# Altium integrated library Xilinx XC4000 E.IntLib: 265 symbols (part 22 of 22)
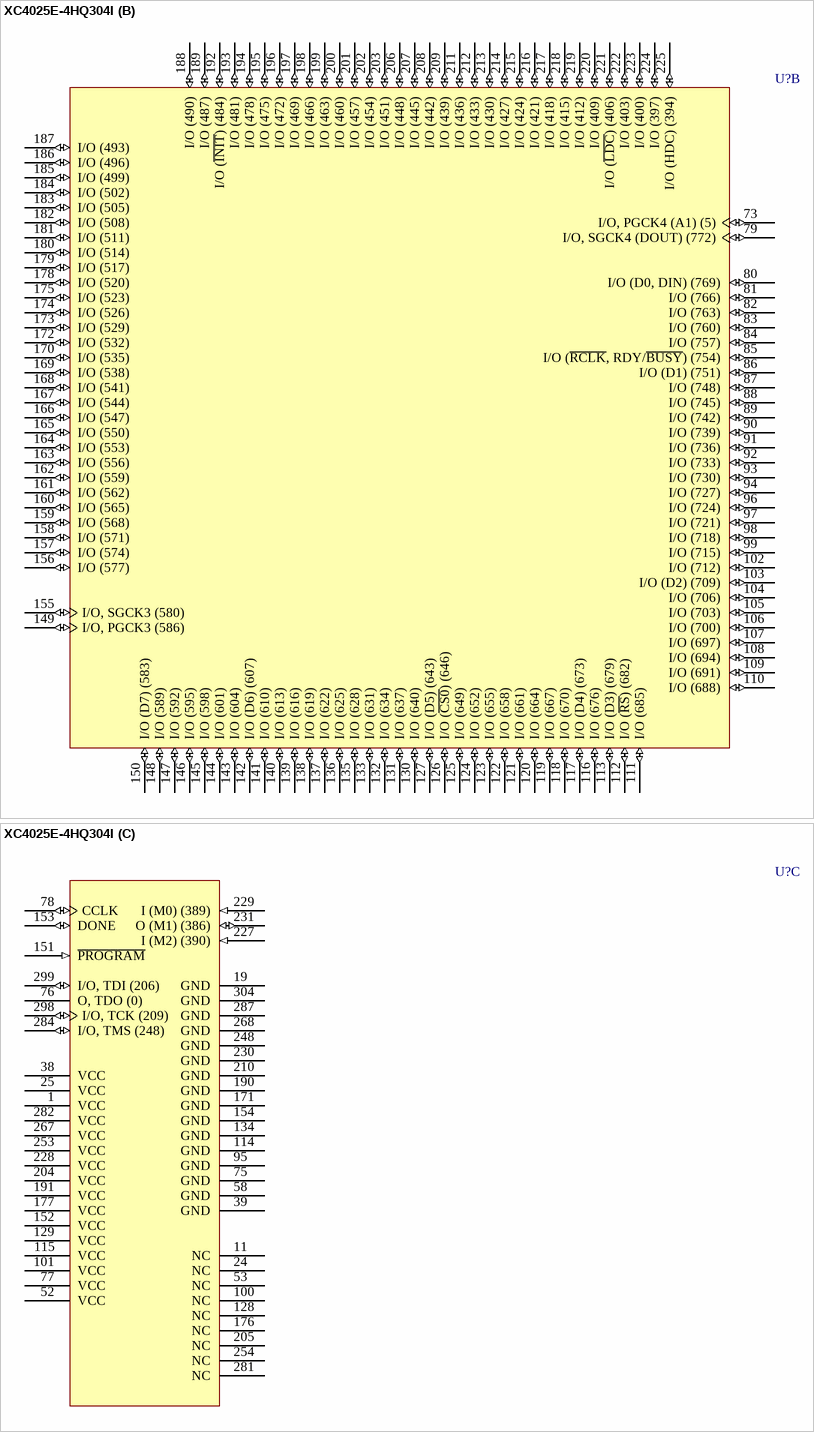
[diagram p293: symbol XC4025E-4HQ304I]

## XC4025E-4HQ304I
designator U?
XC4000E FPGA, 304-Pin HQFP, Industrial Grade; PackageDocument: ver1.1, Oct-2002; Published: 28-Feb-2003; DatasheetDocument: (v1.6) May-99; PackageReference: HQ304; Publisher: Altium Limited; Code_JEDEC: MO-143-JA
footprint HQ304 (304-Pin Heat Sink Quad Flat Pack (HQ304))
part A pins: 2 I/O, SGCK1 (A15) (191) (io), 3 I/O (A14) (188) (io), 4 I/O (185) (io), 5 I/O (182) (io), 6 I/O (179) (io), 7 I/O (176) (io), 8 I/O (173) (io), 9 I/O (170) (io), 10 I/O (A13) (167) (io), 12 I/O (A12) (164) (io), 13 I/O (161) (io), 14 I/O (158) (io), 15 I/O (155) (io), 16 I/O (152) (io), 17 I/O (149) (io), 18 I/O (146) (io), 20 I/O (143) (io), 21 I/O (140) (io), 22 I/O (137) (io), 23 I/O (134) (io), 26 I/O (131) (io), 27 I/O (128) (io), 28 I/O (125) (io), 29 I/O (122) (io), 30 I/O (A11) (119) (io), 31 I/O (A10) (116) (io), 32 I/O (113) (io), 33 I/O (110) (io), 34 I/O (107) (io), 35 I/O (104) (io), 36 I/O (A9) (101) (io), 37 I/O (A8) (98) (io), 40 I/O (A7) (95) (io), 41 I/O (A6) (92) (io), 42 I/O (89) (io), 43 I/O (86) (io), 44 I/O (83) (io), 45 I/O (80) (io), 46 I/O (A5) (77) (io), 47 I/O (A4) (74) (io), 48 I/O (71) (io), 49 I/O (68) (io), 50 I/O (65) (io), 51 I/O (62) (io), 54 I/O (59) (io), 55 I/O (56) (io), 56 I/O (53) (io), 57 I/O (50) (io), 59 I/O (47) (io), 60 I/O (44) (io), 61 I/O (41) (io), 62 I/O (38) (io), 63 I/O (35) (io), 64 I/O (32) (io), 65 I/O (29) (io), 66 I/O (26) (io), 67 I/O (23) (io), 68 I/O (20) (io), 69 I/O (A3) (17) (io), 70 I/O (CS1, A2) (14) (io), 71 I/O (11) (io), 72 I/O (8) (io), 74 I/O (A0, ~{WS}) (2) (io), 226 I/O, PGCK2 (391) (io), 232 I/O, SGCK2 (383) (io), 233 I/O (380) (io), 234 I/O (377) (io), 235 I/O (374) (io), 236 I/O (371) (io), 237 I/O (368) (io), 238 I/O (365) (io), 239 I/O (362) (io), 240 I/O (359) (io), 241 I/O (356) (io), 242 I/O (353) (io), 243 I/O (350) (io), 244 I/O (347) (io), 245 I/O (344) (io), 246 I/O (341) (io), 247 I/O (338) (io), 249 I/O (335) (io), 250 I/O (332) (io), 251 I/O (329) (io), 252 I/O (326) (io), 255 I/O (323) (io), 256 I/O (320) (io), 257 I/O (317) (io), 258 I/O (314) (io), 259 I/O (311) (io), 260 I/O (308) (io), 261 I/O (305) (io), 262 I/O (302) (io), 263 I/O (299) (io), 264 I/O (296) (io), 265 I/O (293) (io), 266 I/O (290) (io), 269 I/O (287) (io), 270 I/O (284) (io), 271 I/O (281) (io), 272 I/O (278) (io), 273 I/O (275) (io), 274 I/O (272) (io), 275 I/O (269) (io), 276 I/O (266) (io), 277 I/O (263) (io), 278 I/O (260) (io), 279 I/O (257) (io), 280 I/O (254) (io), 283 I/O (251) (io), 285 I/O (245) (io), 286 I/O (242) (io), 288 I/O (239) (io), 289 I/O (236) (io), 290 I/O (233) (io), 291 I/O (230) (io), 292 I/O (227) (io), 293 I/O (224) (io), 294 I/O (221) (io), 295 I/O (218) (io), 296 I/O (215) (io), 297 I/O (212) (io), 300 I/O (203) (io), 301 I/O (200) (io), 302 I/O (A17) (197) (io), 303 I/O, PGCK1 (A16) (194) (io)
part B pins: 73 I/O, PGCK4 (A1) (5) (io), 79 I/O, SGCK4 (DOUT) (772) (io), 80 I/O (D0, DIN) (769) (io), 81 I/O (766) (io), 82 I/O (763) (io), 83 I/O (760) (io), 84 I/O (757) (io), 85 I/O (~{RCLK}, RDY/~{BUSY}) (754) (io), 86 I/O (D1) (751) (io), 87 I/O (748) (io), 88 I/O (745) (io), 89 I/O (742) (io), 90 I/O (739) (io), 91 I/O (736) (io), 92 I/O (733) (io), 93 I/O (730) (io), 94 I/O (727) (io), 96 I/O (724) (io), 97 I/O (721) (io), 98 I/O (718) (io), 99 I/O (715) (io), 102 I/O (712) (io), 103 I/O (D2) (709) (io), 104 I/O (706) (io), 105 I/O (703) (io), 106 I/O (700) (io), 107 I/O (697) (io), 108 I/O (694) (io), 109 I/O (691) (io), 110 I/O (688) (io), 111 I/O (685) (io), 112 I/O (~{RS}) (682) (io), 113 I/O (D3) (679) (io), 116 I/O (676) (io), 117 I/O (D4) (673) (io), 118 I/O (670) (io), 119 I/O (667) (io), 120 I/O (664) (io), 121 I/O (661) (io), 122 I/O (658) (io), 123 I/O (655) (io), 124 I/O (652) (io), 125 I/O (649) (io), 126 I/O (~{CS0}) (646) (io), 127 I/O (D5) (643) (io), 130 I/O (640) (io), 131 I/O (637) (io), 132 I/O (634) (io), 133 I/O (631) (io), 135 I/O (628) (io), 136 I/O (625) (io), 137 I/O (622) (io), 138 I/O (619) (io), 139 I/O (616) (io), 140 I/O (613) (io), 141 I/O (610) (io), 142 I/O (D6) (607) (io), 143 I/O (604) (io), 144 I/O (601) (io), 145 I/O (598) (io), 146 I/O (595) (io), 147 I/O (592) (io), 148 I/O (589) (io), 149 I/O, PGCK3 (586) (io), 150 I/O (D7) (583) (io), 155 I/O, SGCK3 (580) (io), 156 I/O (577) (io), 157 I/O (574) (io), 158 I/O (571) (io), 159 I/O (568) (io), 160 I/O (565) (io), 161 I/O (562) (io), 162 I/O (559) (io), 163 I/O (556) (io), 164 I/O (553) (io), 165 I/O (550) (io), 166 I/O (547) (io), 167 I/O (544) (io), 168 I/O (541) (io), 169 I/O (538) (io), 170 I/O (535) (io), 172 I/O (532) (io), 173 I/O (529) (io), 174 I/O (526) (io), 175 I/O (523) (io), 178 I/O (520) (io), 179 I/O (517) (io), 180 I/O (514) (io), 181 I/O (511) (io), 182 I/O (508) (io), 183 I/O (505) (io), 184 I/O (502) (io), 185 I/O (499) (io), 186 I/O (496) (io), 187 I/O (493) (io), 188 I/O (490) (io), 189 I/O (487) (io), 192 I/O (~{INIT}) (484) (io), 193 I/O (481) (io), 194 I/O (478) (io), 195 I/O (475) (io), 196 I/O (472) (io), 197 I/O (469) (io), 198 I/O (466) (io), 199 I/O (463) (io), 200 I/O (460) (io), 201 I/O (457) (io), 202 I/O (454) (io), 203 I/O (451) (io), 206 I/O (448) (io), 207 I/O (445) (io), 208 I/O (442) (io), 209 I/O (439) (io), 211 I/O (436) (io), 212 I/O (433) (io), 213 I/O (430) (io), 214 I/O (427) (io), 215 I/O (424) (io), 216 I/O (421) (io), 217 I/O (418) (io), 218 I/O (415) (io), 219 I/O (412) (io), 220 I/O (409) (io), 221 I/O (~{LDC}) (406) (io), 222 I/O (403) (io), 223 I/O (400) (io), 224 I/O (397) (io), 225 I/O (HDC) (394) (io)
part C pins: 1 VCC (power), 11 NC, 19 GND (power), 24 NC, 25 VCC (power), 38 VCC (power), 39 GND (power), 52 VCC (power), 53 NC, 58 GND (power), 75 GND (power), 76 O, TDO (0) (hiz), 77 VCC (power), 78 CCLK (io), 95 GND (power), 100 NC, 101 VCC (power), 114 GND (power), 115 VCC (power), 128 NC, 129 VCC (power), 134 GND (power), 151 ~{PROGRAM} (in), 152 VCC (power), 153 DONE (io), 154 GND (power), 171 GND (power), 176 NC, 177 VCC (power), 190 GND (power), 191 VCC (power), 204 VCC (power), 205 NC, 210 GND (power), 227 I (M2) (390) (in), 228 VCC (power), 229 I (M0) (389) (in), 230 GND (power), 231 O (M1) (386) (io), 248 GND (power), 253 VCC (power), 254 NC, 267 VCC (power), 268 GND (power), 281 NC, 282 VCC (power), 284 I/O, TMS (248) (io), 287 GND (power), 298 I/O, TCK (209) (io), 299 I/O, TDI (206) (io), 304 GND (power)

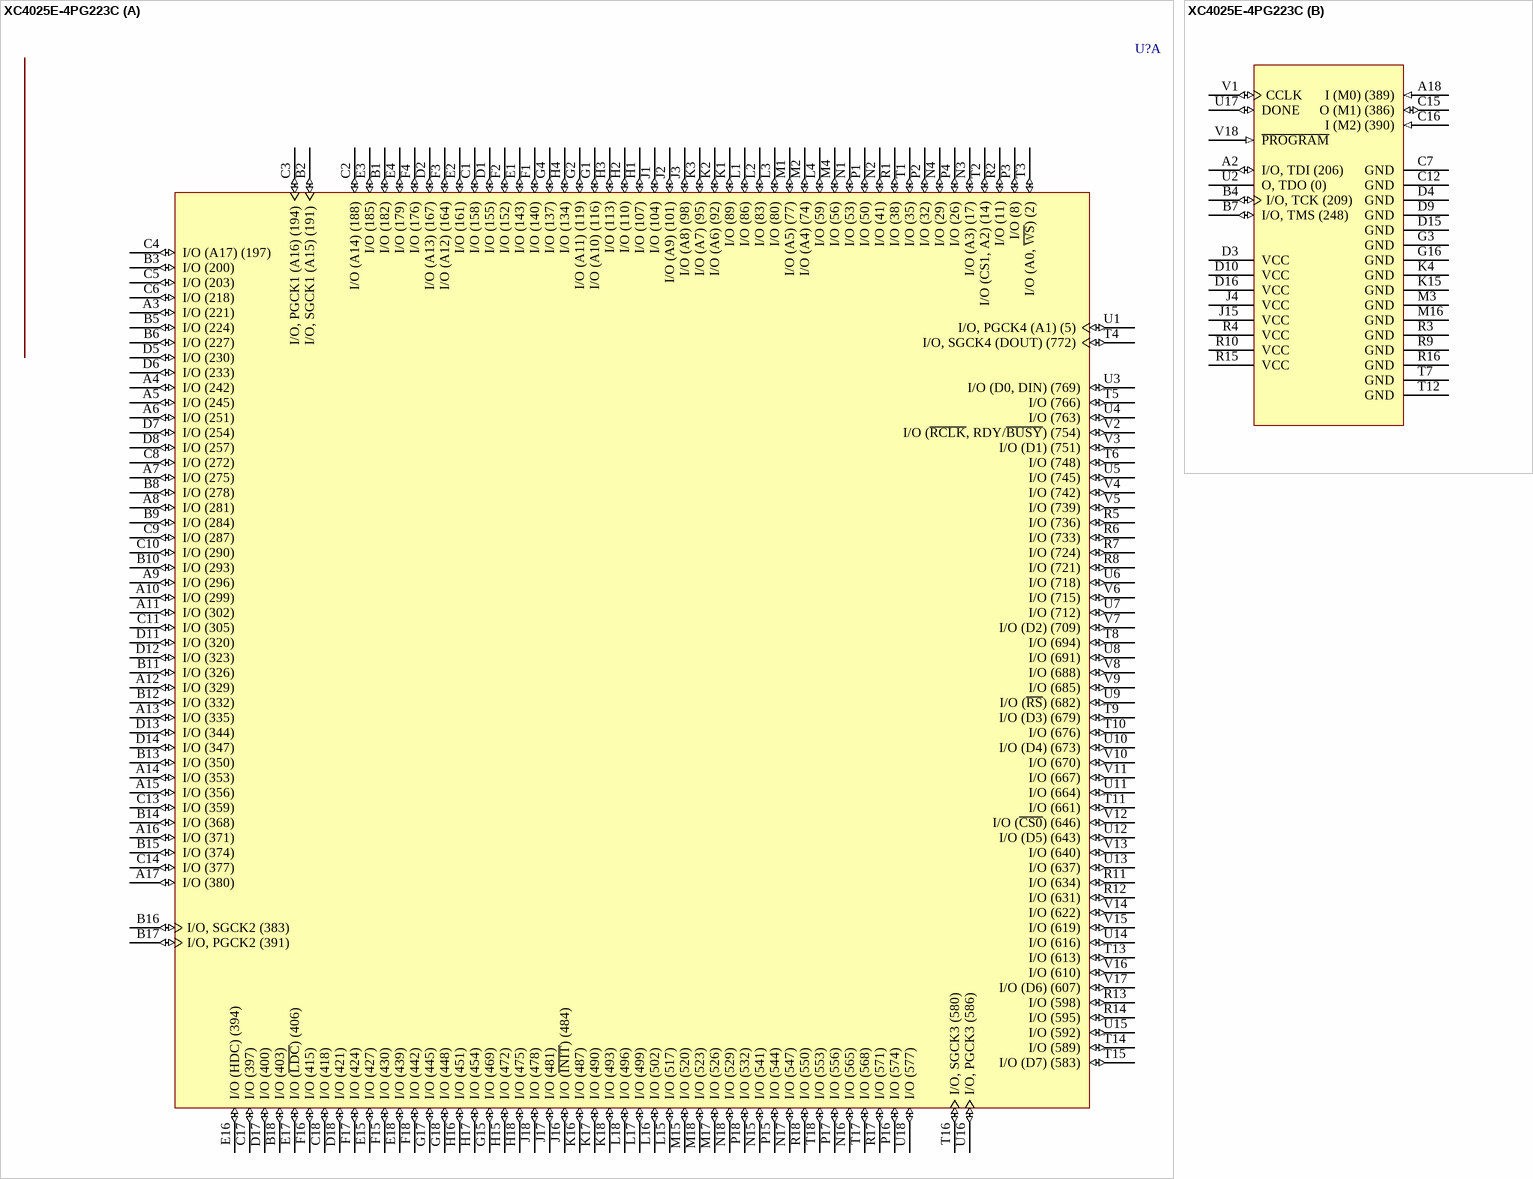
[diagram p267: symbol XC4025E-4PG223C]

## XC4025E-4PG223C
designator U?
XC4000E FPGA, 223-Pin PGA, Commercial Grade; PackageDocument: ver1.0, Jun-2000; Published: 28-Feb-2003; DatasheetDocument: (v1.6) May-99; PackageReference: PG223; Publisher: Altium Limited
footprint PG223 (223-Pin Ceramic Pin Grid Array (PG223))
part A pins: A3 I/O (221) (io), A4 I/O (242) (io), A5 I/O (245) (io), A6 I/O (251) (io), A7 I/O (275) (io), A8 I/O (281) (io), A9 I/O (296) (io), A10 I/O (299) (io), A11 I/O (302) (io), A12 I/O (329) (io), A13 I/O (335) (io), A14 I/O (353) (io), A15 I/O (356) (io), A16 I/O (371) (io), A17 I/O (380) (io), B1 I/O (182) (io), B2 I/O, SGCK1 (A15) (191) (io), B3 I/O (200) (io), B5 I/O (224) (io), B6 I/O (227) (io), B8 I/O (278) (io), B9 I/O (284) (io), B10 I/O (293) (io), B11 I/O (326) (io), B12 I/O (332) (io), B13 I/O (350) (io), B14 I/O (368) (io), B15 I/O (374) (io), B16 I/O, SGCK2 (383) (io), B17 I/O, PGCK2 (391) (io), B18 I/O (403) (io), C1 I/O (158) (io), C2 I/O (A14) (188) (io), C3 I/O, PGCK1 (A16) (194) (io), C4 I/O (A17) (197) (io), C5 I/O (203) (io), C6 I/O (218) (io), C8 I/O (272) (io), C9 I/O (287) (io), C10 I/O (290) (io), C11 I/O (305) (io), C13 I/O (359) (io), C14 I/O (377) (io), C17 I/O (397) (io), C18 I/O (418) (io), D1 I/O (155) (io), D2 I/O (A13) (167) (io), D5 I/O (230) (io), D6 I/O (233) (io), D7 I/O (254) (io), D8 I/O (257) (io), D11 I/O (320) (io), D12 I/O (323) (io), D13 I/O (344) (io), D14 I/O (347) (io), D17 I/O (400) (io), D18 I/O (421) (io), E1 I/O (143) (io), E2 I/O (161) (io), E3 I/O (185) (io), E4 I/O (179) (io), E15 I/O (427) (io), E16 I/O (HDC) (394) (io), E17 I/O (~{LDC}) (406) (io), E18 I/O (439) (io), F1 I/O (140) (io), F2 I/O (152) (io), F3 I/O (A12) (164) (io), F4 I/O (176) (io), F15 I/O (430) (io), F16 I/O (415) (io), F17 I/O (424) (io), F18 I/O (442) (io), G1 I/O (A10) (116) (io), G2 I/O (A11) (119) (io), G4 I/O (137) (io), G15 I/O (469) (io), G17 I/O (445) (io), G18 I/O (448) (io), H1 I/O (107) (io), H2 I/O (110) (io), H3 I/O (113) (io), H4 I/O (134) (io), H15 I/O (472) (io), H16 I/O (451) (io), H17 I/O (454) (io), H18 I/O (475) (io), J1 I/O (104) (io), J2 I/O (A9) (101) (io), J3 I/O (A8) (98) (io), J16 I/O (~{INIT}) (484) (io), J17 I/O (481) (io), J18 I/O (478) (io), K1 I/O (89) (io), K2 I/O (A6) (92) (io), K3 I/O (A7) (95) (io), K16 I/O (487) (io), K17 I/O (490) (io), K18 I/O (493) (io), L1 I/O (86) (io), L2 I/O (83) (io), L3 I/O (80) (io), L4 I/O (59) (io), L15 I/O (517) (io), L16 I/O (502) (io), L17 I/O (499) (io), L18 I/O (496) (io), M1 I/O (A5) (77) (io), M2 I/O (A4) (74) (io), M4 I/O (56) (io), M15 I/O (520) (io), M17 I/O (526) (io), M18 I/O (523) (io), N1 I/O (53) (io), N2 I/O (41) (io), N3 I/O (A3) (17) (io), N4 I/O (29) (io), N15 I/O (541) (io), N16 I/O (565) (io), N17 I/O (547) (io), N18 I/O (529) (io), P1 I/O (50) (io), P2 I/O (32) (io), P3 I/O (8) (io), P4 I/O (26) (io), P15 I/O (544) (io), P16 I/O (574) (io), P17 I/O (556) (io), P18 I/O (532) (io), R1 I/O (38) (io), R2 I/O (11) (io), R5 I/O (736) (io), R6 I/O (733) (io), R7 I/O (724) (io), R8 I/O (721) (io), R11 I/O (634) (io), R12 I/O (631) (io), R13 I/O (598) (io), R14 I/O (595) (io), R17 I/O (571) (io), R18 I/O (550) (io), T1 I/O (35) (io), T2 I/O (CS1, A2) (14) (io), T3 I/O (A0, ~{WS}) (2) (io), T4 I/O, SGCK4 (DOUT) (772) (io), T5 I/O (766) (io), T6 I/O (748) (io), T8 I/O (694) (io), T9 I/O (D3) (679) (io), T10 I/O (676) (io), T11 I/O (661) (io), T13 I/O (613) (io), T14 I/O (589) (io), T15 I/O (D7) (583) (io), T16 I/O, SGCK3 (580) (io), T17 I/O (568) (io), T18 I/O (553) (io), U1 I/O, PGCK4 (A1) (5) (io), U3 I/O (D0, DIN) (769) (io), U4 I/O (763) (io), U5 I/O (745) (io), U6 I/O (718) (io), U7 I/O (712) (io), U8 I/O (691) (io), U9 I/O (~{RS}) (682) (io), U10 I/O (D4) (673) (io), U11 I/O (664) (io), U12 I/O (D5) (643) (io), U13 I/O (637) (io), U14 I/O (616) (io), U15 I/O (592) (io), U16 I/O, PGCK3 (586) (io), U18 I/O (577) (io), V2 I/O (~{RCLK}, RDY/~{BUSY}) (754) (io), V3 I/O (D1) (751) (io), V4 I/O (742) (io), V5 I/O (739) (io), V6 I/O (715) (io), V7 I/O (D2) (709) (io), V8 I/O (688) (io), V9 I/O (685) (io), V10 I/O (670) (io), V11 I/O (667) (io), V12 I/O (~{CS0}) (646) (io), V13 I/O (640) (io), V14 I/O (622) (io), V15 I/O (619) (io), V16 I/O (610) (io), V17 I/O (D6) (607) (io)
part B pins: A2 I/O, TDI (206) (io), A18 I (M0) (389) (in), B4 I/O, TCK (209) (io), B7 I/O, TMS (248) (io), C7 GND (power), C12 GND (power), C15 O (M1) (386) (io), C16 I (M2) (390) (in), D3 VCC (power), D4 GND (power), D9 GND (power), D10 VCC (power), D15 GND (power), D16 VCC (power), G3 GND (power), G16 GND (power), J4 VCC (power), J15 VCC (power), K4 GND (power), K15 GND (power), M3 GND (power), M16 GND (power), R3 GND (power), R4 VCC (power), R9 GND (power), R10 VCC (power), R15 VCC (power), R16 GND (power), T7 GND (power), T12 GND (power), U2 O, TDO (0) (hiz), U17 DONE (io), V1 CCLK (io), V18 ~{PROGRAM} (in)

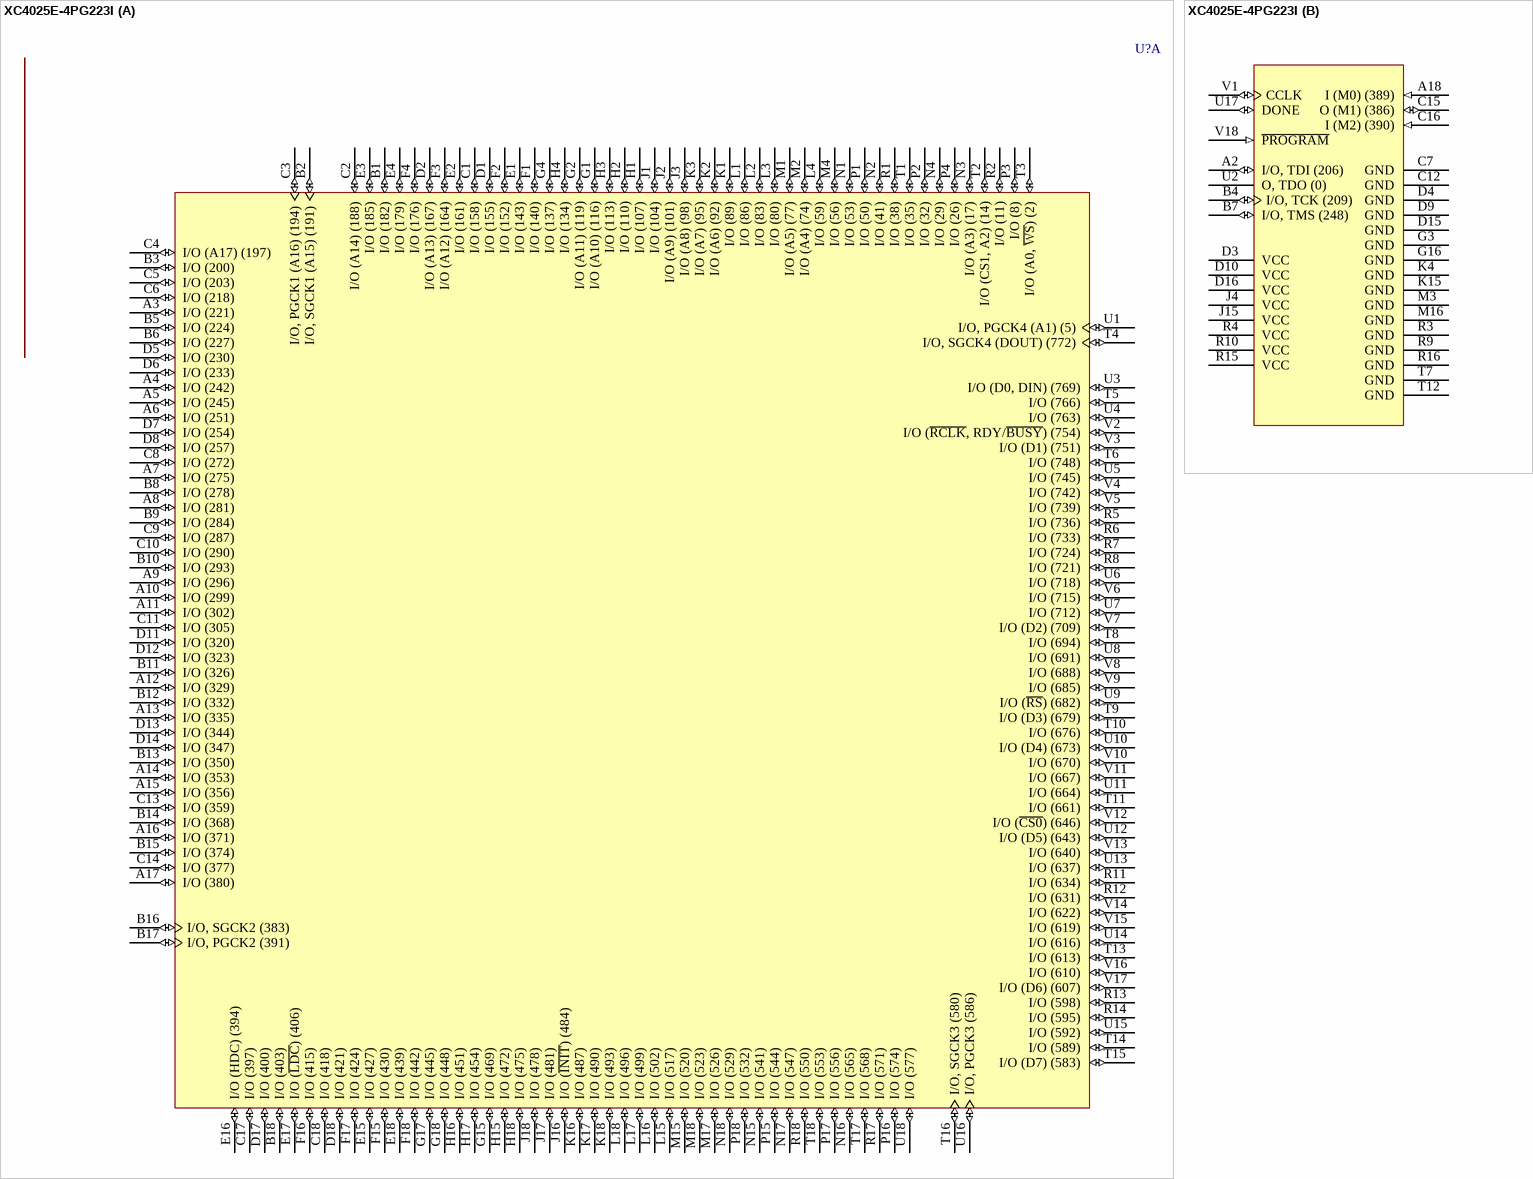
[diagram p268: symbol XC4025E-4PG223I]

## XC4025E-4PG223I
designator U?
XC4000E FPGA, 223-Pin PGA, Industrial Grade; PackageDocument: ver1.0, Jun-2000; Published: 28-Feb-2003; DatasheetDocument: (v1.6) May-99; PackageReference: PG223; Publisher: Altium Limited
footprint PG223 (223-Pin Ceramic Pin Grid Array (PG223))
part A pins: A3 I/O (221) (io), A4 I/O (242) (io), A5 I/O (245) (io), A6 I/O (251) (io), A7 I/O (275) (io), A8 I/O (281) (io), A9 I/O (296) (io), A10 I/O (299) (io), A11 I/O (302) (io), A12 I/O (329) (io), A13 I/O (335) (io), A14 I/O (353) (io), A15 I/O (356) (io), A16 I/O (371) (io), A17 I/O (380) (io), B1 I/O (182) (io), B2 I/O, SGCK1 (A15) (191) (io), B3 I/O (200) (io), B5 I/O (224) (io), B6 I/O (227) (io), B8 I/O (278) (io), B9 I/O (284) (io), B10 I/O (293) (io), B11 I/O (326) (io), B12 I/O (332) (io), B13 I/O (350) (io), B14 I/O (368) (io), B15 I/O (374) (io), B16 I/O, SGCK2 (383) (io), B17 I/O, PGCK2 (391) (io), B18 I/O (403) (io), C1 I/O (158) (io), C2 I/O (A14) (188) (io), C3 I/O, PGCK1 (A16) (194) (io), C4 I/O (A17) (197) (io), C5 I/O (203) (io), C6 I/O (218) (io), C8 I/O (272) (io), C9 I/O (287) (io), C10 I/O (290) (io), C11 I/O (305) (io), C13 I/O (359) (io), C14 I/O (377) (io), C17 I/O (397) (io), C18 I/O (418) (io), D1 I/O (155) (io), D2 I/O (A13) (167) (io), D5 I/O (230) (io), D6 I/O (233) (io), D7 I/O (254) (io), D8 I/O (257) (io), D11 I/O (320) (io), D12 I/O (323) (io), D13 I/O (344) (io), D14 I/O (347) (io), D17 I/O (400) (io), D18 I/O (421) (io), E1 I/O (143) (io), E2 I/O (161) (io), E3 I/O (185) (io), E4 I/O (179) (io), E15 I/O (427) (io), E16 I/O (HDC) (394) (io), E17 I/O (~{LDC}) (406) (io), E18 I/O (439) (io), F1 I/O (140) (io), F2 I/O (152) (io), F3 I/O (A12) (164) (io), F4 I/O (176) (io), F15 I/O (430) (io), F16 I/O (415) (io), F17 I/O (424) (io), F18 I/O (442) (io), G1 I/O (A10) (116) (io), G2 I/O (A11) (119) (io), G4 I/O (137) (io), G15 I/O (469) (io), G17 I/O (445) (io), G18 I/O (448) (io), H1 I/O (107) (io), H2 I/O (110) (io), H3 I/O (113) (io), H4 I/O (134) (io), H15 I/O (472) (io), H16 I/O (451) (io), H17 I/O (454) (io), H18 I/O (475) (io), J1 I/O (104) (io), J2 I/O (A9) (101) (io), J3 I/O (A8) (98) (io), J16 I/O (~{INIT}) (484) (io), J17 I/O (481) (io), J18 I/O (478) (io), K1 I/O (89) (io), K2 I/O (A6) (92) (io), K3 I/O (A7) (95) (io), K16 I/O (487) (io), K17 I/O (490) (io), K18 I/O (493) (io), L1 I/O (86) (io), L2 I/O (83) (io), L3 I/O (80) (io), L4 I/O (59) (io), L15 I/O (517) (io), L16 I/O (502) (io), L17 I/O (499) (io), L18 I/O (496) (io), M1 I/O (A5) (77) (io), M2 I/O (A4) (74) (io), M4 I/O (56) (io), M15 I/O (520) (io), M17 I/O (526) (io), M18 I/O (523) (io), N1 I/O (53) (io), N2 I/O (41) (io), N3 I/O (A3) (17) (io), N4 I/O (29) (io), N15 I/O (541) (io), N16 I/O (565) (io), N17 I/O (547) (io), N18 I/O (529) (io), P1 I/O (50) (io), P2 I/O (32) (io), P3 I/O (8) (io), P4 I/O (26) (io), P15 I/O (544) (io), P16 I/O (574) (io), P17 I/O (556) (io), P18 I/O (532) (io), R1 I/O (38) (io), R2 I/O (11) (io), R5 I/O (736) (io), R6 I/O (733) (io), R7 I/O (724) (io), R8 I/O (721) (io), R11 I/O (634) (io), R12 I/O (631) (io), R13 I/O (598) (io), R14 I/O (595) (io), R17 I/O (571) (io), R18 I/O (550) (io), T1 I/O (35) (io), T2 I/O (CS1, A2) (14) (io), T3 I/O (A0, ~{WS}) (2) (io), T4 I/O, SGCK4 (DOUT) (772) (io), T5 I/O (766) (io), T6 I/O (748) (io), T8 I/O (694) (io), T9 I/O (D3) (679) (io), T10 I/O (676) (io), T11 I/O (661) (io), T13 I/O (613) (io), T14 I/O (589) (io), T15 I/O (D7) (583) (io), T16 I/O, SGCK3 (580) (io), T17 I/O (568) (io), T18 I/O (553) (io), U1 I/O, PGCK4 (A1) (5) (io), U3 I/O (D0, DIN) (769) (io), U4 I/O (763) (io), U5 I/O (745) (io), U6 I/O (718) (io), U7 I/O (712) (io), U8 I/O (691) (io), U9 I/O (~{RS}) (682) (io), U10 I/O (D4) (673) (io), U11 I/O (664) (io), U12 I/O (D5) (643) (io), U13 I/O (637) (io), U14 I/O (616) (io), U15 I/O (592) (io), U16 I/O, PGCK3 (586) (io), U18 I/O (577) (io), V2 I/O (~{RCLK}, RDY/~{BUSY}) (754) (io), V3 I/O (D1) (751) (io), V4 I/O (742) (io), V5 I/O (739) (io), V6 I/O (715) (io), V7 I/O (D2) (709) (io), V8 I/O (688) (io), V9 I/O (685) (io), V10 I/O (670) (io), V11 I/O (667) (io), V12 I/O (~{CS0}) (646) (io), V13 I/O (640) (io), V14 I/O (622) (io), V15 I/O (619) (io), V16 I/O (610) (io), V17 I/O (D6) (607) (io)
part B pins: A2 I/O, TDI (206) (io), A18 I (M0) (389) (in), B4 I/O, TCK (209) (io), B7 I/O, TMS (248) (io), C7 GND (power), C12 GND (power), C15 O (M1) (386) (io), C16 I (M2) (390) (in), D3 VCC (power), D4 GND (power), D9 GND (power), D10 VCC (power), D15 GND (power), D16 VCC (power), G3 GND (power), G16 GND (power), J4 VCC (power), J15 VCC (power), K4 GND (power), K15 GND (power), M3 GND (power), M16 GND (power), R3 GND (power), R4 VCC (power), R9 GND (power), R10 VCC (power), R15 VCC (power), R16 GND (power), T7 GND (power), T12 GND (power), U2 O, TDO (0) (hiz), U17 DONE (io), V1 CCLK (io), V18 ~{PROGRAM} (in)

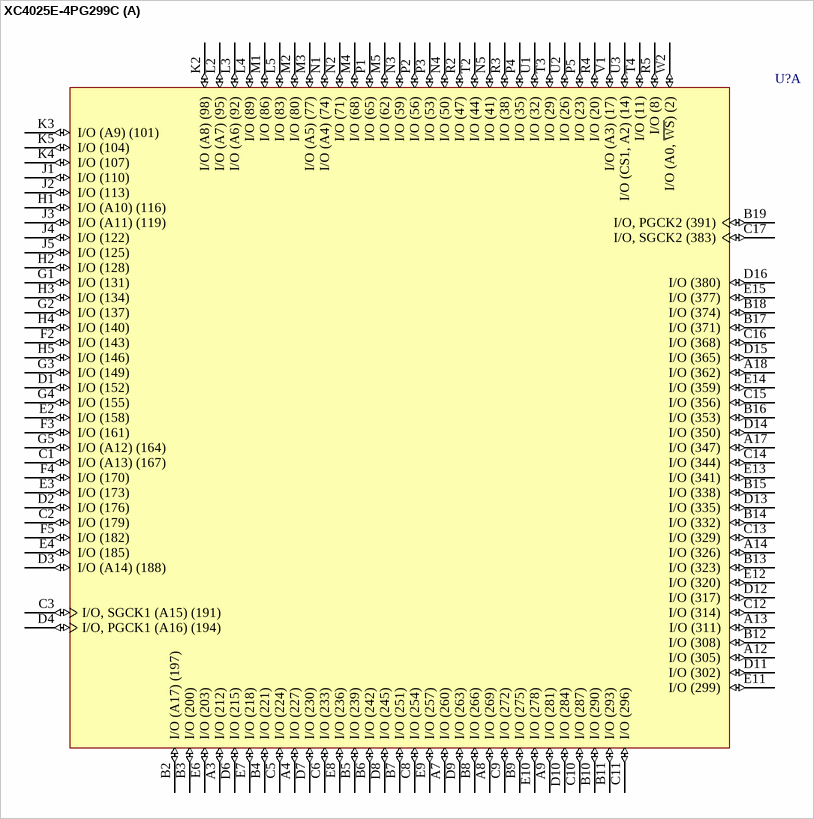
[diagram p269: symbol XC4025E-4PG299C]

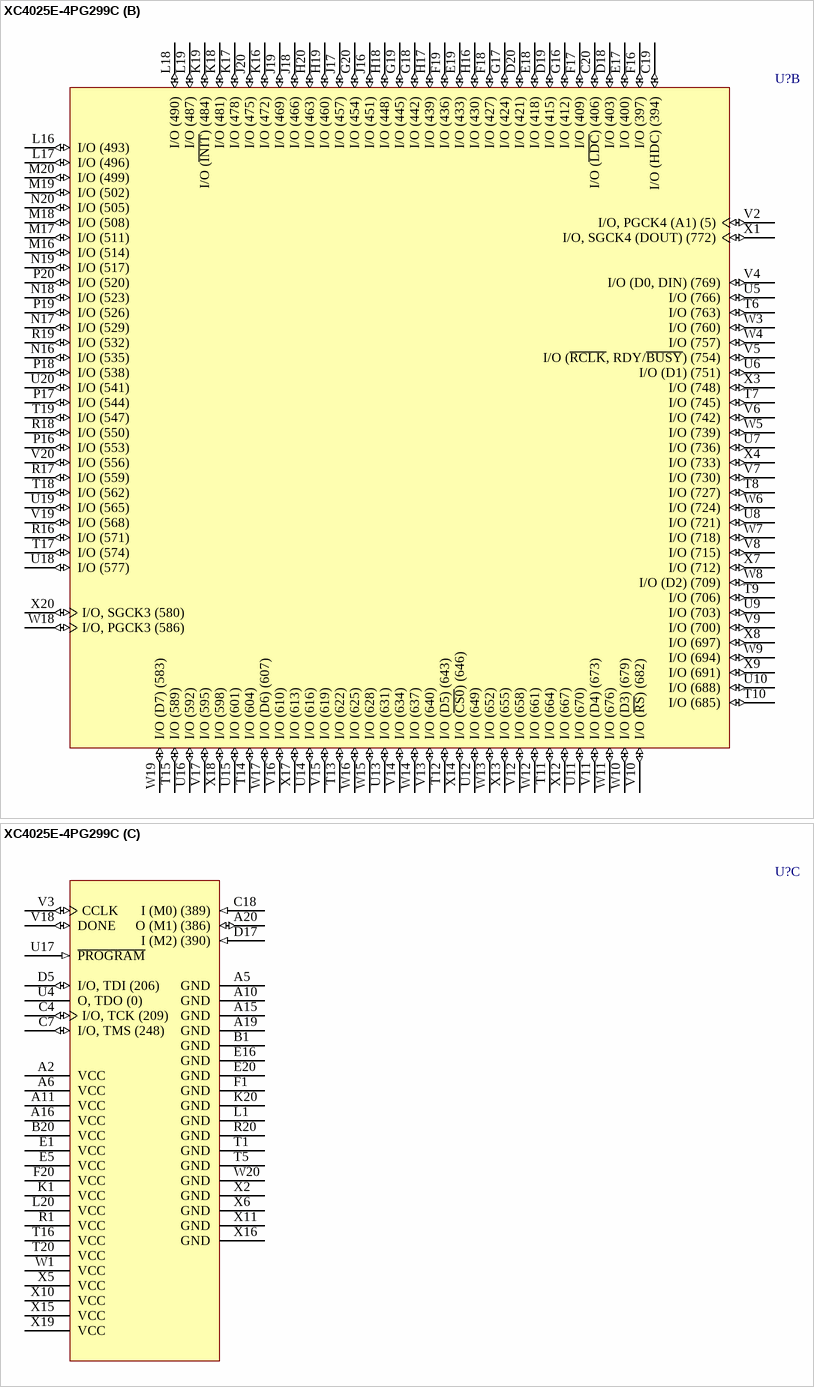
[diagram p270: symbol XC4025E-4PG299C]

## XC4025E-4PG299C
designator U?
XC4000E FPGA, 299-Pin PGA, Commercial Grade; PackageDocument: ver1.0, Jun-2000; Published: 28-Feb-2003; DatasheetDocument: (v1.6) May-99; PackageReference: PG299; Publisher: Altium Limited
footprint PG299 (299-Pin Ceramic Pin Grid Array (PG299))
part A pins: A3 I/O (212) (io), A4 I/O (227) (io), A7 I/O (260) (io), A8 I/O (269) (io), A9 I/O (281) (io), A12 I/O (305) (io), A13 I/O (311) (io), A14 I/O (326) (io), A17 I/O (347) (io), A18 I/O (362) (io), B2 I/O (A17) (197) (io), B3 I/O (200) (io), B4 I/O (221) (io), B5 I/O (239) (io), B6 I/O (242) (io), B7 I/O (251) (io), B8 I/O (266) (io), B9 I/O (275) (io), B10 I/O (290) (io), B11 I/O (293) (io), B12 I/O (308) (io), B13 I/O (323) (io), B14 I/O (332) (io), B15 I/O (338) (io), B16 I/O (353) (io), B17 I/O (371) (io), B18 I/O (374) (io), B19 I/O, PGCK2 (391) (io), C1 I/O (A13) (167) (io), C2 I/O (179) (io), C3 I/O, SGCK1 (A15) (191) (io), C5 I/O (224) (io), C6 I/O (233) (io), C8 I/O (254) (io), C9 I/O (272) (io), C10 I/O (287) (io), C11 I/O (296) (io), C12 I/O (314) (io), C13 I/O (329) (io), C14 I/O (344) (io), C15 I/O (356) (io), C16 I/O (368) (io), C17 I/O, SGCK2 (383) (io), D1 I/O (152) (io), D2 I/O (176) (io), D3 I/O (A14) (188) (io), D4 I/O, PGCK1 (A16) (194) (io), D6 I/O (215) (io), D7 I/O (230) (io), D8 I/O (245) (io), D9 I/O (263) (io), D10 I/O (284) (io), D11 I/O (302) (io), D12 I/O (317) (io), D13 I/O (335) (io), D14 I/O (350) (io), D15 I/O (365) (io), D16 I/O (380) (io), E2 I/O (158) (io), E3 I/O (173) (io), E4 I/O (185) (io), E6 I/O (203) (io), E7 I/O (218) (io), E8 I/O (236) (io), E9 I/O (257) (io), E10 I/O (278) (io), E11 I/O (299) (io), E12 I/O (320) (io), E13 I/O (341) (io), E14 I/O (359) (io), E15 I/O (377) (io), F2 I/O (143) (io), F3 I/O (161) (io), F4 I/O (170) (io), F5 I/O (182) (io), G1 I/O (131) (io), G2 I/O (137) (io), G3 I/O (149) (io), G4 I/O (155) (io), G5 I/O (A12) (164) (io), H1 I/O (A10) (116) (io), H2 I/O (128) (io), H3 I/O (134) (io), H4 I/O (140) (io), H5 I/O (146) (io), J1 I/O (110) (io), J2 I/O (113) (io), J3 I/O (A11) (119) (io), J4 I/O (122) (io), J5 I/O (125) (io), K2 I/O (A8) (98) (io), K3 I/O (A9) (101) (io), K4 I/O (107) (io), K5 I/O (104) (io), L2 I/O (A7) (95) (io), L3 I/O (A6) (92) (io), L4 I/O (89) (io), L5 I/O (83) (io), M1 I/O (86) (io), M2 I/O (80) (io), M3 I/O (A5) (77) (io), M4 I/O (68) (io), M5 I/O (62) (io), N1 I/O (A4) (74) (io), N2 I/O (71) (io), N3 I/O (59) (io), N4 I/O (50) (io), N5 I/O (41) (io), P1 I/O (65) (io), P2 I/O (56) (io), P3 I/O (53) (io), P4 I/O (35) (io), P5 I/O (23) (io), R2 I/O (47) (io), R3 I/O (38) (io), R4 I/O (20) (io), R5 I/O (8) (io), T2 I/O (44) (io), T3 I/O (29) (io), T4 I/O (11) (io), U1 I/O (32) (io), U2 I/O (26) (io), U3 I/O (CS1, A2) (14) (io), V1 I/O (A3) (17) (io), W2 I/O (A0, ~{WS}) (2) (io)
part B pins: C19 I/O (HDC) (394) (io), C20 I/O (~{LDC}) (406) (io), D18 I/O (403) (io), D19 I/O (415) (io), D20 I/O (421) (io), E17 I/O (400) (io), E18 I/O (418) (io), E19 I/O (433) (io), F16 I/O (397) (io), F17 I/O (409) (io), F18 I/O (427) (io), F19 I/O (436) (io), G16 I/O (412) (io), G17 I/O (424) (io), G18 I/O (442) (io), G19 I/O (445) (io), G20 I/O (454) (io), H16 I/O (430) (io), H17 I/O (439) (io), H18 I/O (448) (io), H19 I/O (460) (io), H20 I/O (463) (io), J16 I/O (451) (io), J17 I/O (457) (io), J18 I/O (466) (io), J19 I/O (469) (io), J20 I/O (475) (io), K16 I/O (472) (io), K17 I/O (478) (io), K18 I/O (481) (io), K19 I/O (~{INIT}) (484) (io), L16 I/O (493) (io), L17 I/O (496) (io), L18 I/O (490) (io), L19 I/O (487) (io), M16 I/O (514) (io), M17 I/O (511) (io), M18 I/O (508) (io), M19 I/O (502) (io), M20 I/O (499) (io), N16 I/O (535) (io), N17 I/O (529) (io), N18 I/O (523) (io), N19 I/O (517) (io), N20 I/O (505) (io), P16 I/O (553) (io), P17 I/O (544) (io), P18 I/O (538) (io), P19 I/O (526) (io), P20 I/O (520) (io), R16 I/O (571) (io), R17 I/O (559) (io), R18 I/O (550) (io), R19 I/O (532) (io), T6 I/O (763) (io), T7 I/O (745) (io), T8 I/O (727) (io), T9 I/O (706) (io), T10 I/O (685) (io), T11 I/O (664) (io), T12 I/O (D5) (643) (io), T13 I/O (622) (io), T14 I/O (604) (io), T15 I/O (589) (io), T17 I/O (574) (io), T18 I/O (562) (io), T19 I/O (547) (io), U5 I/O (766) (io), U6 I/O (D1) (751) (io), U7 I/O (736) (io), U8 I/O (721) (io), U9 I/O (703) (io), U10 I/O (688) (io), U11 I/O (670) (io), U12 I/O (649) (io), U13 I/O (631) (io), U14 I/O (616) (io), U15 I/O (601) (io), U16 I/O (592) (io), U18 I/O (577) (io), U19 I/O (565) (io), U20 I/O (541) (io), V2 I/O, PGCK4 (A1) (5) (io), V4 I/O (D0, DIN) (769) (io), V5 I/O (~{RCLK}, RDY/~{BUSY}) (754) (io), V6 I/O (742) (io), V7 I/O (730) (io), V8 I/O (715) (io), V9 I/O (700) (io), V10 I/O (~{RS}) (682) (io), V11 I/O (D4) (673) (io), V12 I/O (658) (io), V13 I/O (640) (io), V14 I/O (634) (io), V15 I/O (619) (io), V16 I/O (610) (io), V17 I/O (595) (io), V19 I/O (568) (io), V20 I/O (556) (io), W3 I/O (760) (io), W4 I/O (757) (io), W5 I/O (739) (io), W6 I/O (724) (io), W7 I/O (718) (io), W8 I/O (D2) (709) (io), W9 I/O (694) (io), W10 I/O (D3) (679) (io), W11 I/O (676) (io), W12 I/O (661) (io), W13 I/O (652) (io), W14 I/O (637) (io), W15 I/O (628) (io), W16 I/O (625) (io), W17 I/O (D6) (607) (io), W18 I/O, PGCK3 (586) (io), W19 I/O (D7) (583) (io), X1 I/O, SGCK4 (DOUT) (772) (io), X3 I/O (748) (io), X4 I/O (733) (io), X7 I/O (712) (io), X8 I/O (697) (io), X9 I/O (691) (io), X12 I/O (667) (io), X13 I/O (655) (io), X14 I/O (~{CS0}) (646) (io), X17 I/O (613) (io), X18 I/O (598) (io), X20 I/O, SGCK3 (580) (io)
part C pins: A2 VCC (power), A5 GND (power), A6 VCC (power), A10 GND (power), A11 VCC (power), A15 GND (power), A16 VCC (power), A19 GND (power), A20 O (M1) (386) (io), B1 GND (power), B20 VCC (power), C4 I/O, TCK (209) (io), C7 I/O, TMS (248) (io), C18 I (M0) (389) (in), D5 I/O, TDI (206) (io), D17 I (M2) (390) (in), E1 VCC (power), E5 VCC (power), E16 GND (power), E20 GND (power), F1 GND (power), F20 VCC (power), K1 VCC (power), K20 GND (power), L1 GND (power), L20 VCC (power), R1 VCC (power), R20 GND (power), T1 GND (power), T5 GND (power), T16 VCC (power), T20 VCC (power), U4 O, TDO (0) (hiz), U17 ~{PROGRAM} (in), V3 CCLK (io), V18 DONE (io), W1 VCC (power), W20 GND (power), X2 GND (power), X5 VCC (power), X6 GND (power), X10 VCC (power), X11 GND (power), X15 VCC (power), X16 GND (power), X19 VCC (power)

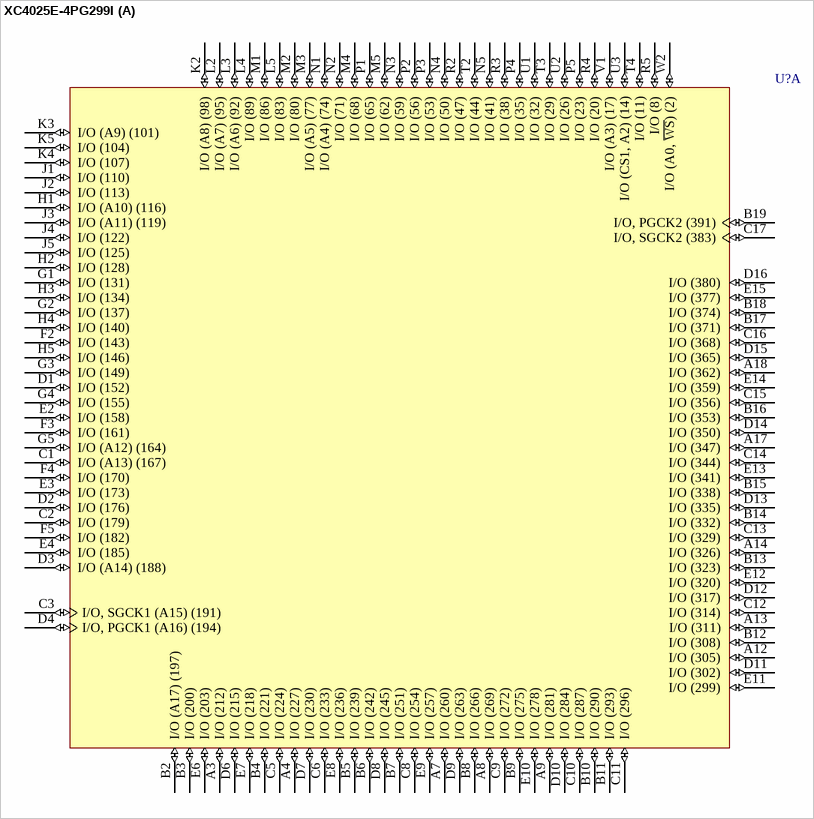
[diagram p271: symbol XC4025E-4PG299I]

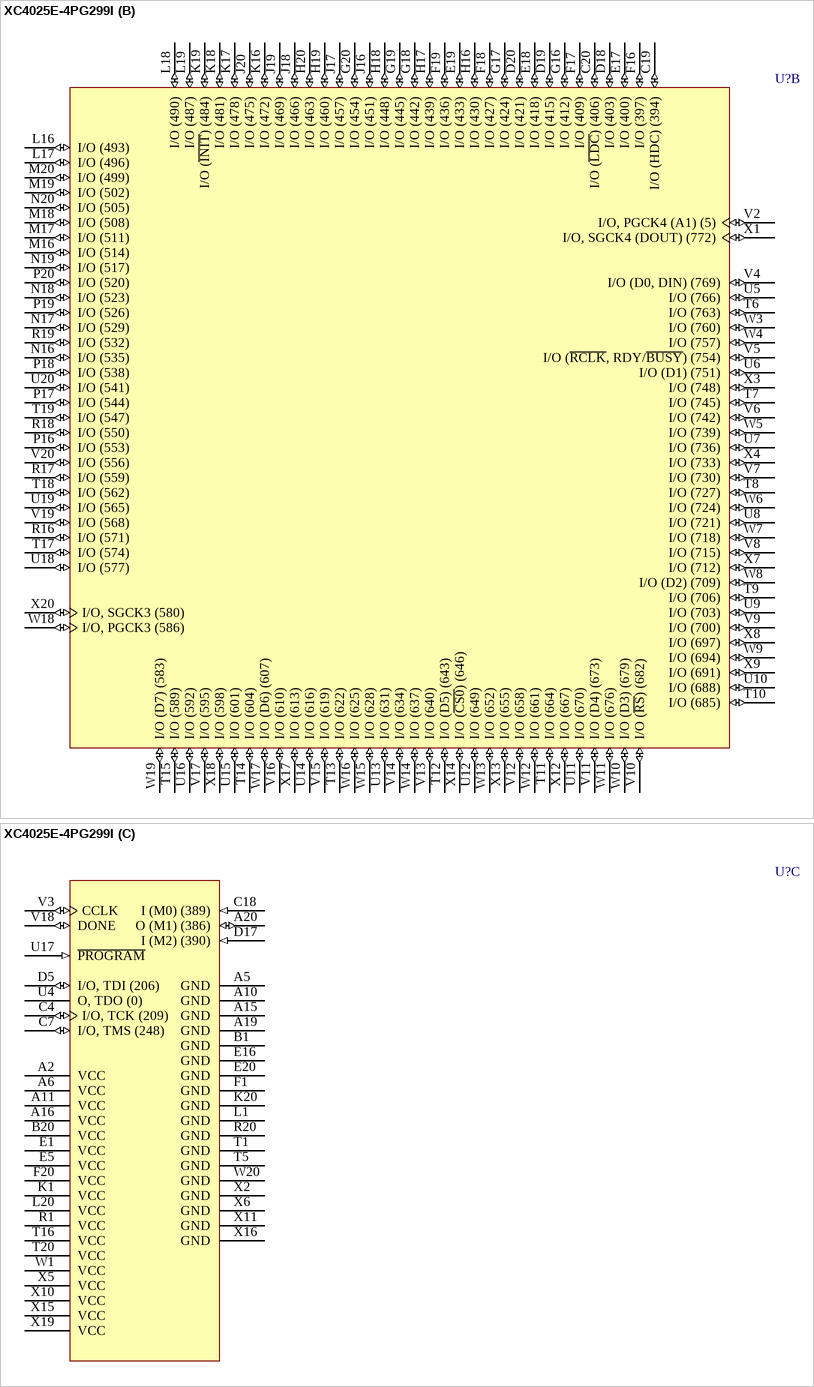
[diagram p272: symbol XC4025E-4PG299I]

## XC4025E-4PG299I
designator U?
XC4000E FPGA, 299-Pin PGA, Industrial Grade; PackageDocument: ver1.0, Jun-2000; Published: 28-Feb-2003; DatasheetDocument: (v1.6) May-99; PackageReference: PG299; Publisher: Altium Limited
footprint PG299 (299-Pin Ceramic Pin Grid Array (PG299))
part A pins: A3 I/O (212) (io), A4 I/O (227) (io), A7 I/O (260) (io), A8 I/O (269) (io), A9 I/O (281) (io), A12 I/O (305) (io), A13 I/O (311) (io), A14 I/O (326) (io), A17 I/O (347) (io), A18 I/O (362) (io), B2 I/O (A17) (197) (io), B3 I/O (200) (io), B4 I/O (221) (io), B5 I/O (239) (io), B6 I/O (242) (io), B7 I/O (251) (io), B8 I/O (266) (io), B9 I/O (275) (io), B10 I/O (290) (io), B11 I/O (293) (io), B12 I/O (308) (io), B13 I/O (323) (io), B14 I/O (332) (io), B15 I/O (338) (io), B16 I/O (353) (io), B17 I/O (371) (io), B18 I/O (374) (io), B19 I/O, PGCK2 (391) (io), C1 I/O (A13) (167) (io), C2 I/O (179) (io), C3 I/O, SGCK1 (A15) (191) (io), C5 I/O (224) (io), C6 I/O (233) (io), C8 I/O (254) (io), C9 I/O (272) (io), C10 I/O (287) (io), C11 I/O (296) (io), C12 I/O (314) (io), C13 I/O (329) (io), C14 I/O (344) (io), C15 I/O (356) (io), C16 I/O (368) (io), C17 I/O, SGCK2 (383) (io), D1 I/O (152) (io), D2 I/O (176) (io), D3 I/O (A14) (188) (io), D4 I/O, PGCK1 (A16) (194) (io), D6 I/O (215) (io), D7 I/O (230) (io), D8 I/O (245) (io), D9 I/O (263) (io), D10 I/O (284) (io), D11 I/O (302) (io), D12 I/O (317) (io), D13 I/O (335) (io), D14 I/O (350) (io), D15 I/O (365) (io), D16 I/O (380) (io), E2 I/O (158) (io), E3 I/O (173) (io), E4 I/O (185) (io), E6 I/O (203) (io), E7 I/O (218) (io), E8 I/O (236) (io), E9 I/O (257) (io), E10 I/O (278) (io), E11 I/O (299) (io), E12 I/O (320) (io), E13 I/O (341) (io), E14 I/O (359) (io), E15 I/O (377) (io), F2 I/O (143) (io), F3 I/O (161) (io), F4 I/O (170) (io), F5 I/O (182) (io), G1 I/O (131) (io), G2 I/O (137) (io), G3 I/O (149) (io), G4 I/O (155) (io), G5 I/O (A12) (164) (io), H1 I/O (A10) (116) (io), H2 I/O (128) (io), H3 I/O (134) (io), H4 I/O (140) (io), H5 I/O (146) (io), J1 I/O (110) (io), J2 I/O (113) (io), J3 I/O (A11) (119) (io), J4 I/O (122) (io), J5 I/O (125) (io), K2 I/O (A8) (98) (io), K3 I/O (A9) (101) (io), K4 I/O (107) (io), K5 I/O (104) (io), L2 I/O (A7) (95) (io), L3 I/O (A6) (92) (io), L4 I/O (89) (io), L5 I/O (83) (io), M1 I/O (86) (io), M2 I/O (80) (io), M3 I/O (A5) (77) (io), M4 I/O (68) (io), M5 I/O (62) (io), N1 I/O (A4) (74) (io), N2 I/O (71) (io), N3 I/O (59) (io), N4 I/O (50) (io), N5 I/O (41) (io), P1 I/O (65) (io), P2 I/O (56) (io), P3 I/O (53) (io), P4 I/O (35) (io), P5 I/O (23) (io), R2 I/O (47) (io), R3 I/O (38) (io), R4 I/O (20) (io), R5 I/O (8) (io), T2 I/O (44) (io), T3 I/O (29) (io), T4 I/O (11) (io), U1 I/O (32) (io), U2 I/O (26) (io), U3 I/O (CS1, A2) (14) (io), V1 I/O (A3) (17) (io), W2 I/O (A0, ~{WS}) (2) (io)
part B pins: C19 I/O (HDC) (394) (io), C20 I/O (~{LDC}) (406) (io), D18 I/O (403) (io), D19 I/O (415) (io), D20 I/O (421) (io), E17 I/O (400) (io), E18 I/O (418) (io), E19 I/O (433) (io), F16 I/O (397) (io), F17 I/O (409) (io), F18 I/O (427) (io), F19 I/O (436) (io), G16 I/O (412) (io), G17 I/O (424) (io), G18 I/O (442) (io), G19 I/O (445) (io), G20 I/O (454) (io), H16 I/O (430) (io), H17 I/O (439) (io), H18 I/O (448) (io), H19 I/O (460) (io), H20 I/O (463) (io), J16 I/O (451) (io), J17 I/O (457) (io), J18 I/O (466) (io), J19 I/O (469) (io), J20 I/O (475) (io), K16 I/O (472) (io), K17 I/O (478) (io), K18 I/O (481) (io), K19 I/O (~{INIT}) (484) (io), L16 I/O (493) (io), L17 I/O (496) (io), L18 I/O (490) (io), L19 I/O (487) (io), M16 I/O (514) (io), M17 I/O (511) (io), M18 I/O (508) (io), M19 I/O (502) (io), M20 I/O (499) (io), N16 I/O (535) (io), N17 I/O (529) (io), N18 I/O (523) (io), N19 I/O (517) (io), N20 I/O (505) (io), P16 I/O (553) (io), P17 I/O (544) (io), P18 I/O (538) (io), P19 I/O (526) (io), P20 I/O (520) (io), R16 I/O (571) (io), R17 I/O (559) (io), R18 I/O (550) (io), R19 I/O (532) (io), T6 I/O (763) (io), T7 I/O (745) (io), T8 I/O (727) (io), T9 I/O (706) (io), T10 I/O (685) (io), T11 I/O (664) (io), T12 I/O (D5) (643) (io), T13 I/O (622) (io), T14 I/O (604) (io), T15 I/O (589) (io), T17 I/O (574) (io), T18 I/O (562) (io), T19 I/O (547) (io), U5 I/O (766) (io), U6 I/O (D1) (751) (io), U7 I/O (736) (io), U8 I/O (721) (io), U9 I/O (703) (io), U10 I/O (688) (io), U11 I/O (670) (io), U12 I/O (649) (io), U13 I/O (631) (io), U14 I/O (616) (io), U15 I/O (601) (io), U16 I/O (592) (io), U18 I/O (577) (io), U19 I/O (565) (io), U20 I/O (541) (io), V2 I/O, PGCK4 (A1) (5) (io), V4 I/O (D0, DIN) (769) (io), V5 I/O (~{RCLK}, RDY/~{BUSY}) (754) (io), V6 I/O (742) (io), V7 I/O (730) (io), V8 I/O (715) (io), V9 I/O (700) (io), V10 I/O (~{RS}) (682) (io), V11 I/O (D4) (673) (io), V12 I/O (658) (io), V13 I/O (640) (io), V14 I/O (634) (io), V15 I/O (619) (io), V16 I/O (610) (io), V17 I/O (595) (io), V19 I/O (568) (io), V20 I/O (556) (io), W3 I/O (760) (io), W4 I/O (757) (io), W5 I/O (739) (io), W6 I/O (724) (io), W7 I/O (718) (io), W8 I/O (D2) (709) (io), W9 I/O (694) (io), W10 I/O (D3) (679) (io), W11 I/O (676) (io), W12 I/O (661) (io), W13 I/O (652) (io), W14 I/O (637) (io), W15 I/O (628) (io), W16 I/O (625) (io), W17 I/O (D6) (607) (io), W18 I/O, PGCK3 (586) (io), W19 I/O (D7) (583) (io), X1 I/O, SGCK4 (DOUT) (772) (io), X3 I/O (748) (io), X4 I/O (733) (io), X7 I/O (712) (io), X8 I/O (697) (io), X9 I/O (691) (io), X12 I/O (667) (io), X13 I/O (655) (io), X14 I/O (~{CS0}) (646) (io), X17 I/O (613) (io), X18 I/O (598) (io), X20 I/O, SGCK3 (580) (io)
part C pins: A2 VCC (power), A5 GND (power), A6 VCC (power), A10 GND (power), A11 VCC (power), A15 GND (power), A16 VCC (power), A19 GND (power), A20 O (M1) (386) (io), B1 GND (power), B20 VCC (power), C4 I/O, TCK (209) (io), C7 I/O, TMS (248) (io), C18 I (M0) (389) (in), D5 I/O, TDI (206) (io), D17 I (M2) (390) (in), E1 VCC (power), E5 VCC (power), E16 GND (power), E20 GND (power), F1 GND (power), F20 VCC (power), K1 VCC (power), K20 GND (power), L1 GND (power), L20 VCC (power), R1 VCC (power), R20 GND (power), T1 GND (power), T5 GND (power), T16 VCC (power), T20 VCC (power), U4 O, TDO (0) (hiz), U17 ~{PROGRAM} (in), V3 CCLK (io), V18 DONE (io), W1 VCC (power), W20 GND (power), X2 GND (power), X5 VCC (power), X6 GND (power), X10 VCC (power), X11 GND (power), X15 VCC (power), X16 GND (power), X19 VCC (power)